# Altium integrated library Connectors.IntLib: 24 symbols
Pins are listed as number, name and electrical type; pins without a type are passive.

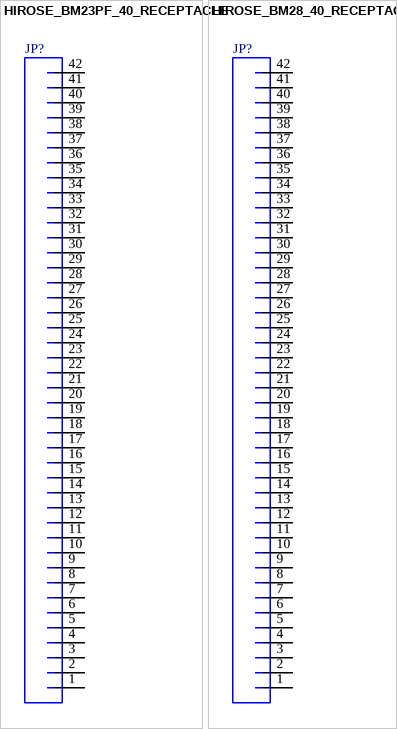
[diagram p0: symbols HIROSE_BM23PF_40_RECEPTACLE to HIROSE_BM28_40_RECEPTACLE]

## HIROSE_BM23PF_40_RECEPTACLE
designator JP?  (value not drawn)
CONN RCPT 0.35MM SMD 40POS; Manufacturer: Hirose; PartNumber: BM23PF0.8-40DS-0.35V(51); PackageReference: BM23PF-0.35; Mounting Technology: Surface Mount
footprint HIROSE-BM23PF-40-0.35MM-RECEPTACLE
pins: 1, 2, 3, 4, 5, 6, 7, 8, 9, 10, 11, 12, 13, 14, 15, 16, 17, 18, 19, 20, 21, 22, 23, 24, 25, 26, 27, 28, 29, 30, 31, 32, 33, 34, 35, 36, 37, 38, 39, 40, 41, 42

## HIROSE_BM28_40_RECEPTACLE
designator JP?  (value not drawn)
Board to Board & Mezzanine Connectors 40P Receptacle Straight SMT; Manufacturer: Hirose; PartNumber: BM28B0.6-40DS/2-0.35V(53); PackageReference: BM28-0.35; Mounting Technology: Surface Mount
footprint HIROSE-BM28-40-0.35MM-RECEPTACLE
pins: 1, 2, 3, 4, 5, 6, 7, 8, 9, 10, 11, 12, 13, 14, 15, 16, 17, 18, 19, 20, 21, 22, 23, 24, 25, 26, 27, 28, 29, 30, 31, 32, 33, 34, 35, 36, 37, 38, 39, 40, 41, 42


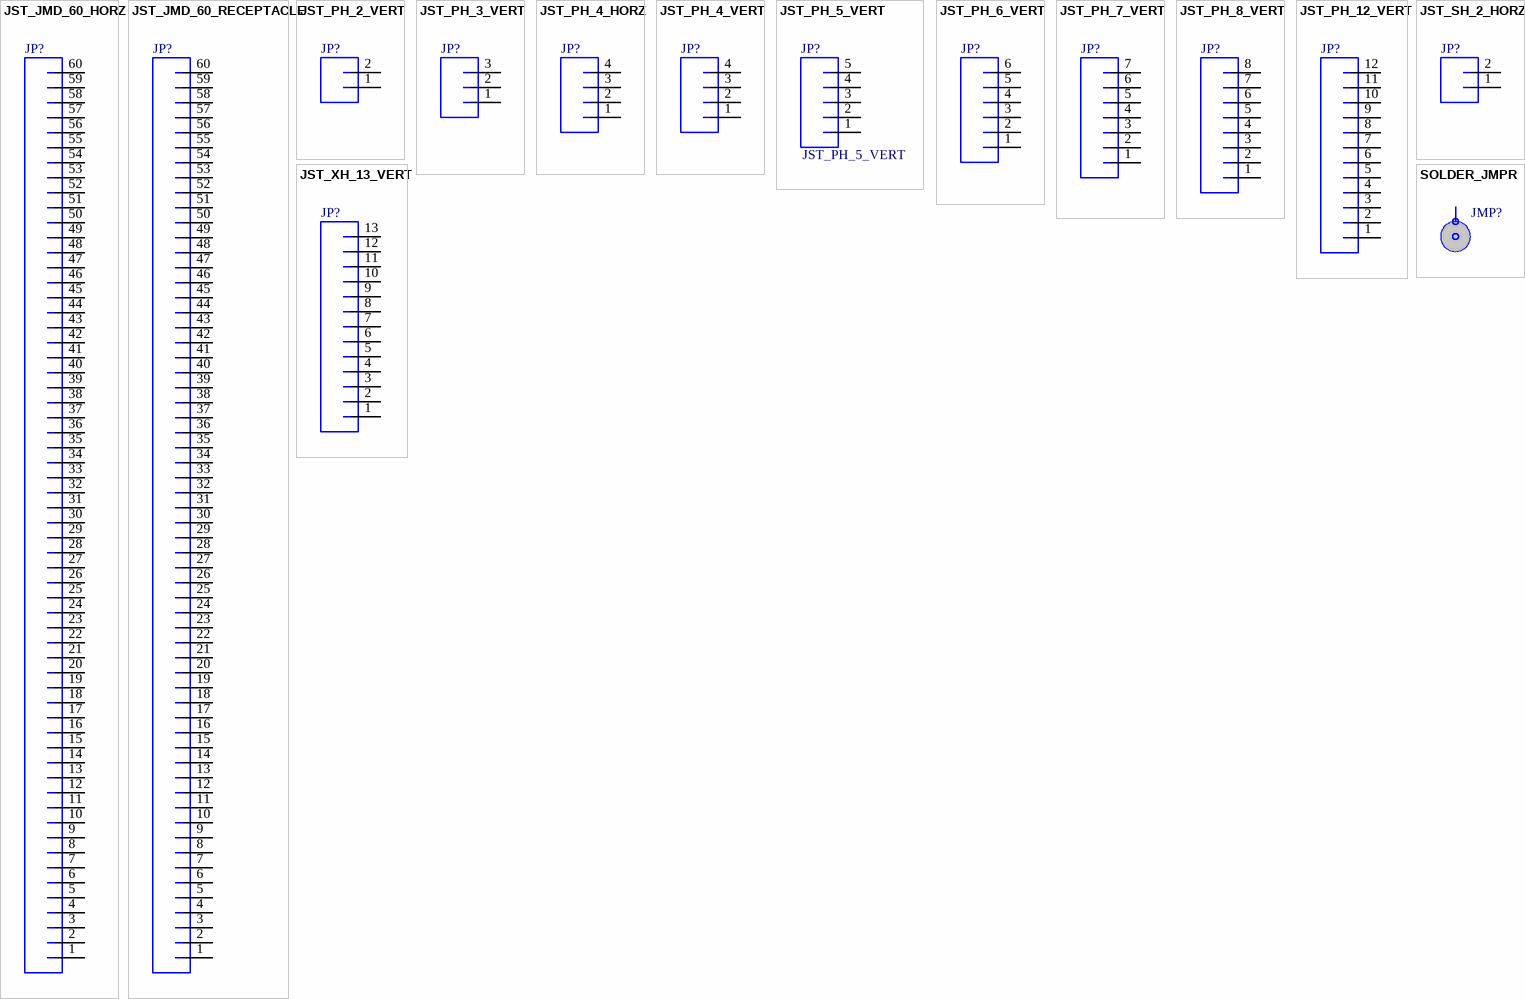
[diagram p1: symbols JST_JMD_60_HORZ to SOLDER_JMPR]

## JST_JMD_60_HORZ
designator JP?  (value not drawn)
Manufacturer: JST Sales America, Inc.; PartNumber: 60PS-JMDSS-G-1-TF; PackageReference: JMD-60; Mounting Technology: Surface Mount
footprint JST-JMD-60-SMD-HORZ
pins: 1, 2, 3, 4, 5, 6, 7, 8, 9, 10, 11, 12, 13, 14, 15, 16, 17, 18, 19, 20, 21, 22, 23, 24, 25, 26, 27, 28, 29, 30, 31, 32, 33, 34, 35, 36, 37, 38, 39, 40, 41, 42, 43, 44, 45, 46, 47, 48, 49, 50, 51, 52, 53, 54, 55, 56, 57, 58, 59, 60

## JST_JMD_60_RECEPTACLE
designator JP?  (value not drawn)
Manufacturer: JST Sales America, Inc.; PartNumber: 60R-JMDSS-G-1-TF(S); PackageReference: JMD-60; Mounting Technology: Surface Mount
footprint JST-JMD-60-SMD-RECEPTACLE
pins: 1, 2, 3, 4, 5, 6, 7, 8, 9, 10, 11, 12, 13, 14, 15, 16, 17, 18, 19, 20, 21, 22, 23, 24, 25, 26, 27, 28, 29, 30, 31, 32, 33, 34, 35, 36, 37, 38, 39, 40, 41, 42, 43, 44, 45, 46, 47, 48, 49, 50, 51, 52, 53, 54, 55, 56, 57, 58, 59, 60

## JST_PH_2_VERT
designator JP?
Manufacturer: JST Sales America, Inc.; PartNumber: B2B-PH-K-S(LF)(SN); Mounting Technology: Through Hole; PackageReference: JST-PH
footprint JST-PH-2-PTH-VERT
pins: 1, 2

## JST_PH_3_VERT
designator JP?
footprint JST-PH-3-PTH-VERT
pins: 1, 2, 3

## JST_PH_4_HORZ
designator JP?
PartNumber: S4B-PH-K-S(LF)(SN); Manufacturer: JST Sales America Inc.; PackageReference: JST-PH; Mounting Technology: Through Hole
footprint JST-PH-4-PTH-HORZ
pins: 1, 2, 3, 4

## JST_PH_4_VERT
designator JP?
PartNumber: B4B-PH-K-S(LF)(SN); Manufacturer: JST Sales America Inc.; PackageReference: JST-PH; Mounting Technology: Through Hole
footprint JST-PH-4-PTH-VERT
pins: 1, 2, 3, 4

## JST_PH_5_VERT
designator JP?
Manufacturer: JST Sales America, Inc.; PartNumber: B5B-PH-K-S(LF)(SN); PackageReference: JST-PH; Mounting Technology: Through Hole
footprint JST-PH-5-PTH-VERT
pins: 1, 2, 3, 4, 5

## JST_PH_6_VERT
designator JP?
PartNumber: B6B-PH-K-S(LF)(SN); Manufacturer: JST Sales America Inc.; PackageReference: JST-PH; Mounting Technology: Through Hole
footprint JST-PH-6-PTH-VERT
pins: 1, 2, 3, 4, 5, 6

## JST_PH_7_VERT
designator JP?
PartNumber: B7B-PH-K-S(LF)(SN); Manufacturer: JST Sales America Inc.; Mounting Technology: Through Hole; PackageReference: JST-PH
footprint JST-PH-7-PTH-VERT
pins: 1, 2, 3, 4, 5, 6, 7

## JST_PH_8_VERT
designator JP?
footprint JST-PH-8-PTH-VERT
pins: 1, 2, 3, 4, 5, 6, 7, 8

## JST_PH_12_VERT
designator JP?
footprint JST-PH-12-PTH-VERT
pins: 1, 2, 3, 4, 5, 6, 7, 8, 9, 10, 11, 12

## JST_SH_2_HORZ
designator JP?
Manufacturer: JST Sales America, Inc.; PartNumber: SM02B-SRSS-TB; Mounting Technology: Surface Mount; PackageReference: JST-SH
footprint JST-SH-2-SMD-HORZ
pins: 1, 2

## JST_XH_13_VERT
designator JP?
Manufacturer: JST Sales America, Inc.; PartNumber: B13B-XH-A(LF)(SN); Mounting Technology: Through Hole; PackageReference: JST-XH
footprint JST-XH-13-PTH-VERT
pins: 1, 2, 3, 4, 5, 6, 7, 8, 9, 10, 11, 12, 13

## SOLDER_JMPR
designator JMP?, comment Solder Jumper  (value not drawn)
footprint SOLDER-JUMPER
pins: 1, 2


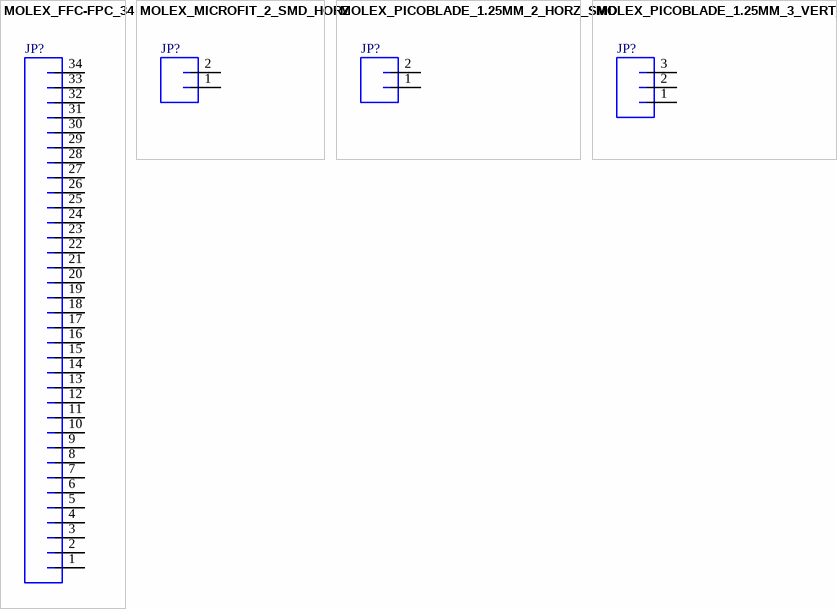
[diagram p2: symbols MOLEX_FFC-FPC_34 to MOLEX_PICOBLADE_1.25MM_3_VERT_SMD]

## MOLEX_FFC-FPC_34
designator JP?  (value not drawn)
Manufacturer: Molex; PartNumber: 51296-3494; PackageReference: FFC-FPC-0.5; Mounting Technology: Surface Mount
footprint MOLEX-FFC-FPC-0.5MM-34
pins: 1, 2, 3, 4, 5, 6, 7, 8, 9, 10, 11, 12, 13, 14, 15, 16, 17, 18, 19, 20, 21, 22, 23, 24, 25, 26, 27, 28, 29, 30, 31, 32, 33, 34

## MOLEX_MICROFIT_2_SMD_HORZ
designator JP?
Manufacturer: Molex; PartNumber: 43650-0212; Mounting Technology: Surface Mount; PackageReference: Microfit-3.0mm
footprint MOLEX-MICROFIT-2-SMD-HORZ (Micro-Fit 3.0™ Right Angle Header, 3.00mm Pitch, Single Row, 2 Circuits, with Solder Tab, Tin, Glow Wire Capable, Black)
pins: 1, 2

## MOLEX_PICOBLADE_1.25MM_2_HORZ_SMD
designator JP?
Manufacturer: Molex; PartNumber: 53261-0271; Mounting Technology: Surface Mount; PackageReference: PicoBlade-1.25mm
footprint MOLEX-PICOBLADE-1.25MM-2-HORZ-SMD
pins: 1, 2

## MOLEX_PICOBLADE_1.25MM_3_VERT_SMD
designator JP?
Manufacturer: Molex; PartNumber: 0533980371; Mounting Technology: Surface Mount; PackageReference: PicoBlade-1.25mm
footprint MOLEX-PICOBLADE-1.25MM-3-VERT-SMD
pins: 1, 2, 3


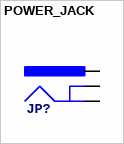
[diagram p3: symbol POWER_JACK]

## POWER_JACK
designator JP?
Manufacturer: CUI Inc.; PartNumber: PJ-036AH-SMT-TR; Mounting Technology: Surface Mount; PackageReference: 2X5.5MM
footprint POWER-JACK-2.1X5.5MM-SMD
pins: 1 PWR, 2 GND, 3 GND


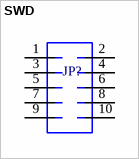
[diagram p4: symbol SWD]

## SWD
designator JP?, comment 1.27mm SWD Connector  (value not drawn)
Manufacturer: Samtec; PartNumber: FTSH-105-01-F-DV; Mounting Technology: SMD; PackageReference: Header-1.27mm-2x5
footprint SWD-SMD
pins: 1, 2, 3, 4, 5, 6, 7, 8, 9, 10


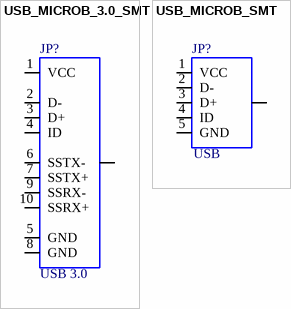
[diagram p5: symbols USB_MICROB_3.0_SMT to USB_MICROB_SMT]

## USB_MICROB_3.0_SMT
designator JP?, comment USB 3.0
PartNumber: GSB343133HR; Manufacturer: Amphenol FCI; Mounting Technology: Surface Mount; PackageReference: USB 3.0 - Micro B
footprint USB-MICROB-3.0
pins: 1 VCC (power), 2 D-, 3 D+, 4 ID, 5 GND (power), 6 SSTX-, 7 SSTX+, 8 GND (power), 9 SSRX- (power), 10 SSRX+ (power), 11 SHIELD

## USB_MICROB_SMT
designator JP?, comment USB
PartNumber: 10118192-0001LF; Manufacturer: Amphenol FCI; Mounting Technology: Surface Mount; PackageReference: USB - Micro B
footprint USB-MICROB; pin to pad 1>VBUS 2>D- 3>D+ 4>ID 5>GND 6>MT1+P$1+P$2+MT2
pins: 1 VCC, 2 D-, 3 D+, 4 ID, 5 GND, 6 SHIELD